# EAGLE library part CONNECTOR_8 (library TD-MySensors)
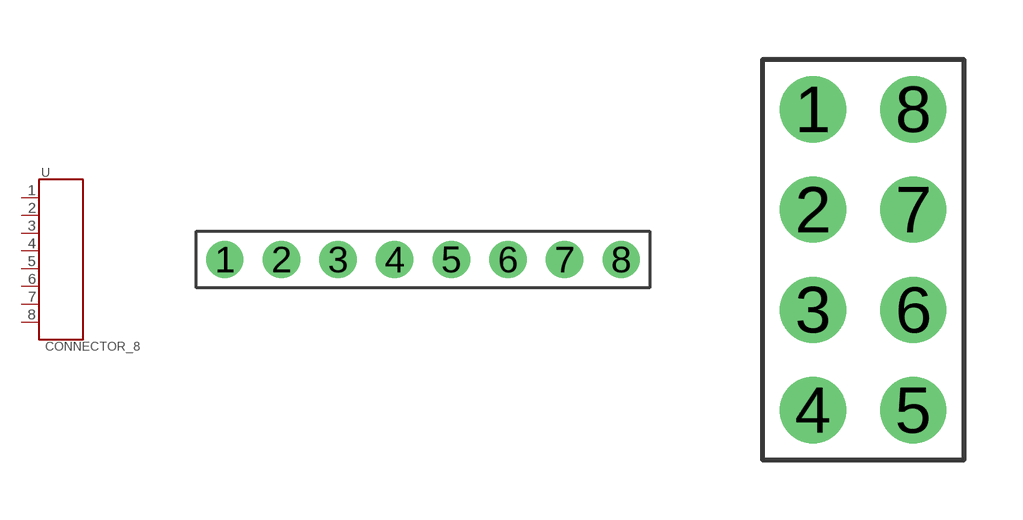
[diagram p11: symbol with the pads of DUPONT_8; footprints DUPONT_8, DUPONT_2_4]

Designator prefix -

## CONNECTOR_8DUPONT  [DUPONT_8]
1  1
2  2
3  3
4  4
5  5
6  6
7  7
8  8

## CONNECTOR_8DUPONT2_4  [DUPONT_2_4]
Pads as for DUPONT_8

## CONNECTOR_8PAD  [PAD_10]
Pads as for DUPONT_8

## CONNECTOR_8DUP_FEM90  [DUPONT_FEM90_8]
Pads as for DUPONT_8

## CONNECTOR_8BARE  [DUPONT_8_NOSILK]
Pads as for DUPONT_8

## Footprint DUPONT_8 (pad centres in mm)
drill 1.016 pad 1.676: 1 -6.35,0; 2 -3.81,0; 3 -1.27,0; 4 1.27,0; 5 3.81,0; 6 6.35,0; 7 8.89,0; 8 11.43,0

## Footprint DUPONT_2_4 (pad centres in mm)
drill 1.016 pad 1.676: 1 -1.27,3.81; 2 -1.27,1.27; 3 -1.27,-1.27; 4 -1.27,-3.81; 5 1.27,-3.81; 6 1.27,-1.27; 7 1.27,1.27; 8 1.27,3.81

## Footprint PAD_10 (pad centres in mm)
Radio module based on the RFM69 chip from HopeRF
smd 1.27 x 1.905: 1 0,0; 2 2.54,0; 3 5.08,0; 4 7.62,0; 5 10.16,0; 6 12.7,0; 7 15.24,0; 8 17.78,0; 9 20.32,0; 10 22.86,0

## Footprint DUPONT_FEM90_8 (pad centres in mm)
drill 1.016 pad 1.676: 1 -8.89,0; 2 -6.35,0; 3 -3.81,0; 4 -1.27,0; 5 1.27,0; 6 3.81,0; 7 6.35,0; 8 8.89,0

## Footprint DUPONT_8_NOSILK (pad centres in mm)
drill 1.016 pad 1.676: 1 -6.35,0; 2 -3.81,0; 3 -1.27,0; 4 1.27,0; 5 3.81,0; 6 6.35,0; 7 8.89,0; 8 11.43,0